# EAGLE library part LTC3608 (library PowerProducts)
18V, 8A Monolithic Synchronous Step-Down DC/DC Converter
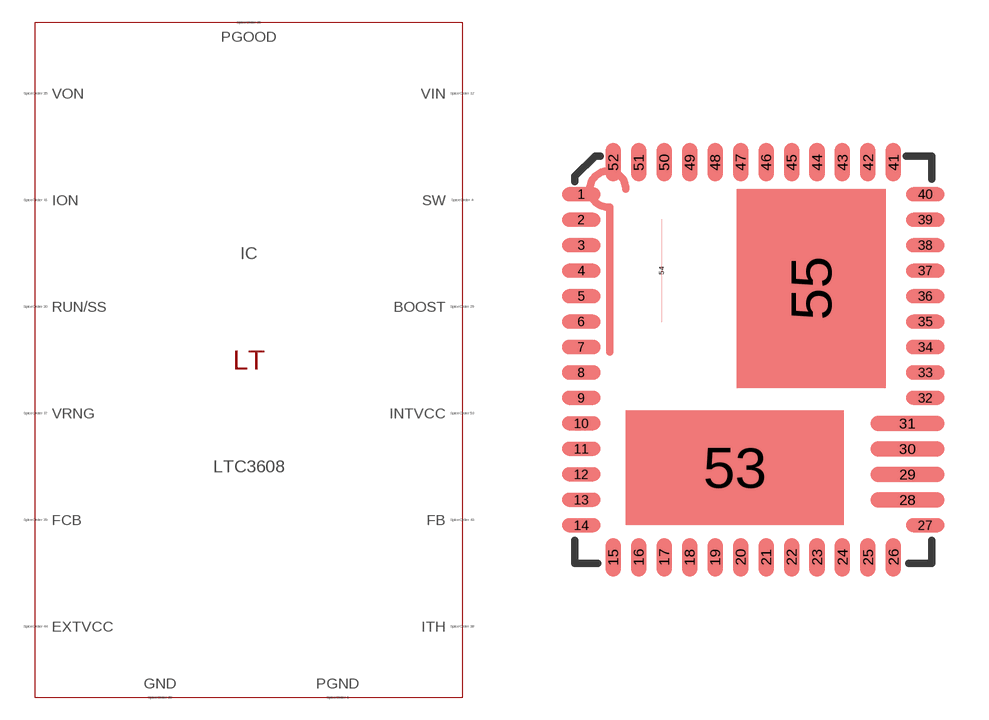
[diagram p262: symbol with the pads of QFN52(WKG); footprint QFN52(WKG)]

Designator prefix IC

## LTC3608 (SPICEMODEL: LTC3608.sub; SPICEPREFIX: X; VALUE2: LTC3608)  [QFN52(WKG)]
1  VIN  pas
2  VIN  pas
3  VIN  pas
4  VIN  pas
5  VIN  pas
6  VIN  pas
7  VIN  pas
8  SW  pas
10  GND  pas
11  BOOST  pas
12  RUN/SS  pas
13  VON  pas
14  GND  pas
15  GND  pas
16  PGOOD  pas
17  VRNG  pas
18  ITH  pas
19  FCB  pas
20  GND  pas
22  ION  pas
23  FB  pas
26  GND  pas
27  GND  pas
29  EXTVCC  pas
30  VIN  pas
31  INTVCC  pas
32  INTVCC  pas
33  SW  pas
34  PGND  pas
35  PGND  pas
36  PGND  pas
37  PGND  pas
38  PGND  pas
39  PGND  pas
40  PGND  pas
41  SW  pas
42  SW  pas
43  SW  pas
44  SW  pas
45  SW  pas
46  SW  pas
47  SW  pas
48  VIN  pas
49  VIN  pas
50  VIN  pas
51  VIN  pas
52  VIN  pas
53  VIN  pas
54  GND  pas
55  SW  pas

## Footprint QFN52(WKG) (pad centres in mm)
Package generated from: QFN52(WKG).asc (!PADS-POWERPCB-V9.3-BASIC! DESIGN DATABASE ASCII FILE 1.0) with :import-pads-powerpcb-v5.ulp Version 1.0.1 at 04.10.2012 14:11:29
smd 1.125 x 0.405: 1 -5.062,4.875; 2 -5.062,4.125; 3 -5.062,3.375; 4 -5.062,2.625; 5 -5.062,1.875; 6 -5.062,1.125; 7 -5.062,0.375; 8 -5.062,-0.375; 9 -5.062,-1.125; 10 -5.062,-1.875; 11 -5.062,-2.625; 12 -5.062,-3.375; 13 -5.062,-4.125; 14 -5.062,-4.875; 27 5.062,-4.875; 32 5.062,-1.125; 33 5.062,-0.375; 34 5.062,0.375; 35 5.062,1.125; 36 5.062,1.875; 37 5.062,2.625; 38 5.062,3.375; 39 5.062,4.125; 40 5.062,4.875
smd 0.45 x 1.125: 15 -4.125,-5.812; 16 -3.375,-5.812; 17 -2.625,-5.812; 18 -1.875,-5.812; 19 -1.125,-5.812; 20 -0.375,-5.812; 21 0.375,-5.812; 22 1.125,-5.812; 23 1.875,-5.812; 24 2.625,-5.812; 25 3.375,-5.812; 26 4.125,-5.812; 41 4.125,5.812; 42 3.375,5.812; 43 2.625,5.812; 44 1.875,5.812; 45 1.125,5.812; 46 0.375,5.812; 47 -0.375,5.812; 48 -1.125,5.812; 49 -1.875,5.812; 50 -2.625,5.812; 51 -3.375,5.812; 52 -4.125,5.812
smd 2.175 x 0.45: 28 4.537,-4.125; 29 4.537,-3.375; 30 4.537,-2.625; 31 4.537,-1.875
smd 6.412 x 3.375: 53 -0.54,-3.18
smd 0 x 3.038: 54 -2.7,2.625
smd 4.388 x 5.85: 55 1.71,2.1